# Altium footprint library CELTHT(D12.5h20)PCM5.pcbLib: 1 footprints
Each footprint in its own frame and in the unit in brackets; x right, y up, seen from the top. Pads: shape width x height; smd on the part's side, far side on the other; paste and mask are expansions set on the pad; w line width, h text height; cw(c..) or ccw(c..) is an arc to the next point about the centre after c.
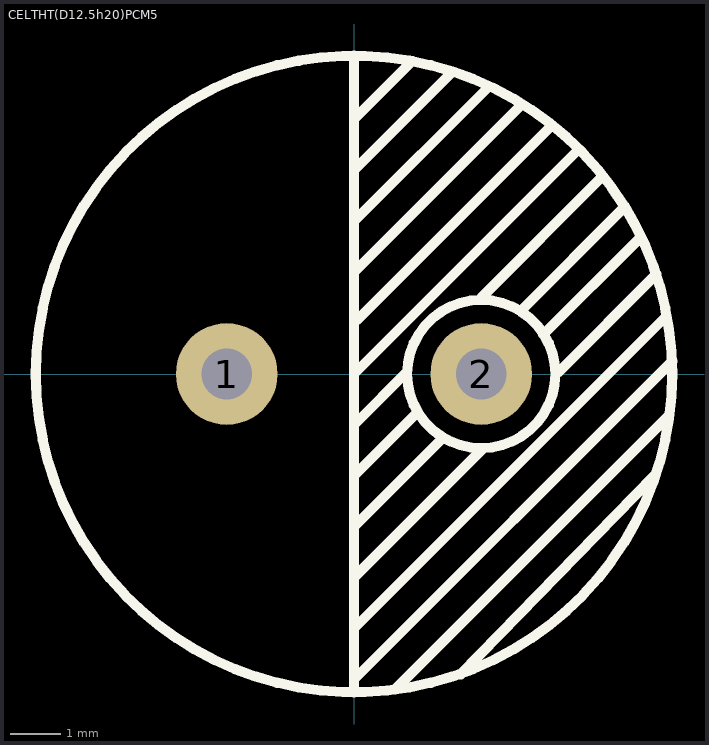
[diagram p0: the footprint, top view; thin cyan lines are the x and y axes]

## CELTHT(D12.5h20)PCM5 [mm] "Electrolytic Capacitors (Radial Lead Type)"
height 20
pads (2):
  round 2 hole 1: 1(-2.5,0) 2(2.5,0)
Top Overlay:
  circle w0.2: c2.5,0 r1.456
  circle w0.2: c0,0 r6.25
  lines w0.2: -0.001,5.001 1.149,6.151 ; 0,-6.25 0.001,-4.999 ; 0,-6 6.25,0.25 ; 0.001,2.998 2.652,5.648 ; 0.001,4.004 1.899,5.901 ; 0.001,6.25 0.001,-4.999 ; 0.003,2.003 3.3,5.3 ; 0.034,-3.966 2.522,-1.478 ; 0.058,-2.942 1.742,-1.258 ; 0.058,-1.942 1.253,-0.747 ; 0.058,-0.942 1.022,0.022 ; 0.058,0.058 4.4,4.4 ; 0.058,1.058 3.85,4.85 ; 0.8,-6.2 6.2,-0.8 ; 2.1,-5.9 5.9,-2 ; 2.518,1.518 4.85,3.85 ; 3.273,1.238 5.318,3.282 ; 3.718,0.777 5.62,2.68 ; 3.999,0.018 5.941,1.959 ; 6.1,1.1 0.001,-4.999
3D body "User Library-CAPPR500-1250x2000.step": height 20.2, standoff -7.3, extent -6.25,-6.25 6.25,6.25